# EAGLE library part I__4566 (library ..SMD)
Industrial TIME BASE GENERATOR
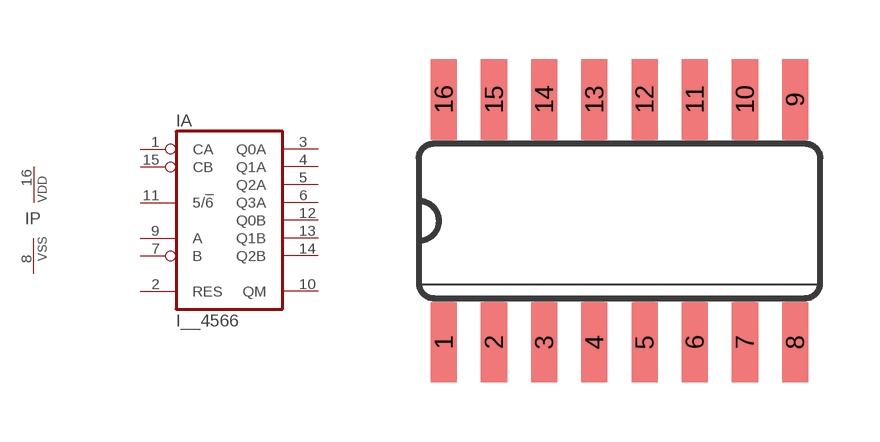
[diagram p136: symbol with the pads of SO16; footprint SO16]

Designator prefix I; gates A=4566 P=PWRN

## I__4566D  [SO16]
1  A:CA  in
2  A:RES  in
3  A:Q0A  out
4  A:Q1A  out
5  A:Q2A  out
6  A:Q3A  out
7  A:B  in
8  P:VSS  pwr
9  A:A  in
10  A:QM  out
11  A:5/!6  in
12  A:Q0B  out
13  A:Q1B  out
14  A:Q2B  out
15  A:CB  in
16  P:VDD  pwr

## Footprint SO16 (pad centres in mm)
Small Outline Package 16
smd 0.66 x 2.032: 1 -4.445,-3.073; 2 -3.175,-3.073; 3 -1.905,-3.073; 4 -0.635,-3.073; 5 0.635,-3.073; 6 1.905,-3.073; 7 3.175,-3.073; 8 4.445,-3.073; 9 4.445,3.073; 10 3.175,3.073; 11 1.905,3.073; 12 0.635,3.073; 13 -0.635,3.073; 14 -1.905,3.073; 15 -3.175,3.073; 16 -4.445,3.073